# Altium footprint library Trans_ON_Semiconductor_BC640TA_eec_MFG.PcbLib: 1 footprints
Each footprint in its own frame and in the unit in brackets; x right, y up, seen from the top. Pads: shape width x height; smd on the part's side, far side on the other; paste and mask are expansions set on the pad; w line width, h text height; cw(c..) or ccw(c..) is an arc to the next point about the centre after c.
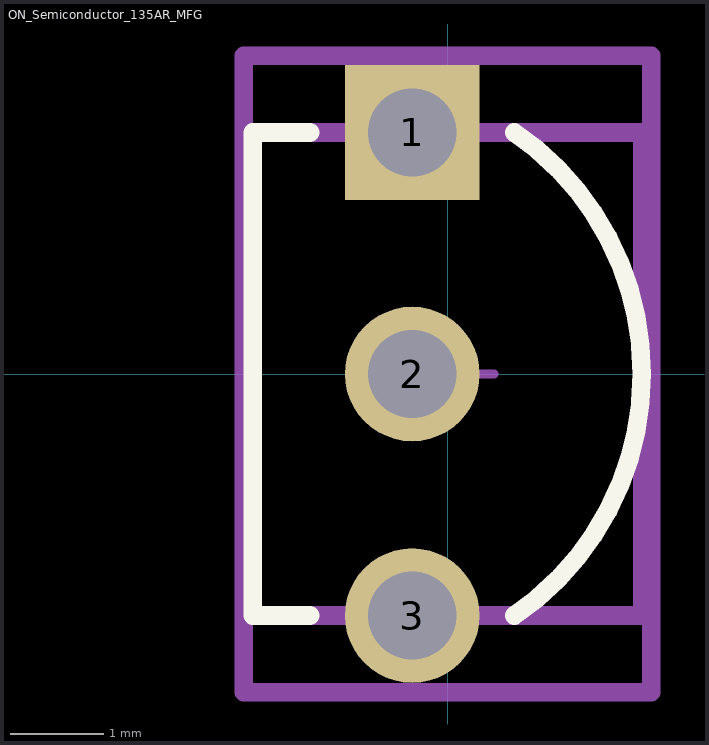
[diagram p0: the footprint, top view; thin cyan lines are the x and y axes]

## ON_Semiconductor_135AR_MFG [mm]
pads (3):
  rect 1.45x1.45 hole 0.95 paste-1000 mask+0: 1(-0.38,2.6)
  round 1.45 hole 0.95 paste-1000 mask+0: 2(-0.38,0) 3(-0.38,-2.6)
Top Overlay:
  lines w0.2: -1.48,-2.6 -2.095,-2.6 -2.095,2.6 -1.48,2.6 ; 0.72,-2.6 ccw(c-1.058,0) 0.72,2.6
Mechanical 10:
  lines w0.2: -2.195,-3.425 2.195,-3.425 2.195,3.425 -2.195,3.425 -2.195,-3.425
  text ".Designator" at 0,0 h1
Mechanical 12:
  lines w0.2: -2.095,-2.6 2.095,-2.6 2.095,2.6 -2.095,2.6 -2.095,-2.6
Mechanical 15:
  lines w0.1: -0.5,0 0.5,0 ; 0,-0.5 0,0.5
  lines w0.2: -2.195,-3.425 2.195,-3.425 2.195,3.425 -2.195,3.425 -2.195,-3.425
3D body "Trans_ON_Semiconductor_BC640TA_eec.STEP": height 0.25, standoff 0, extent -2.195,-3.425 2.195,3.425